# EAGLE library part DMC1627 (library userlib)
LCD DISPLAY Optrex, 16 characters x 2 Lines
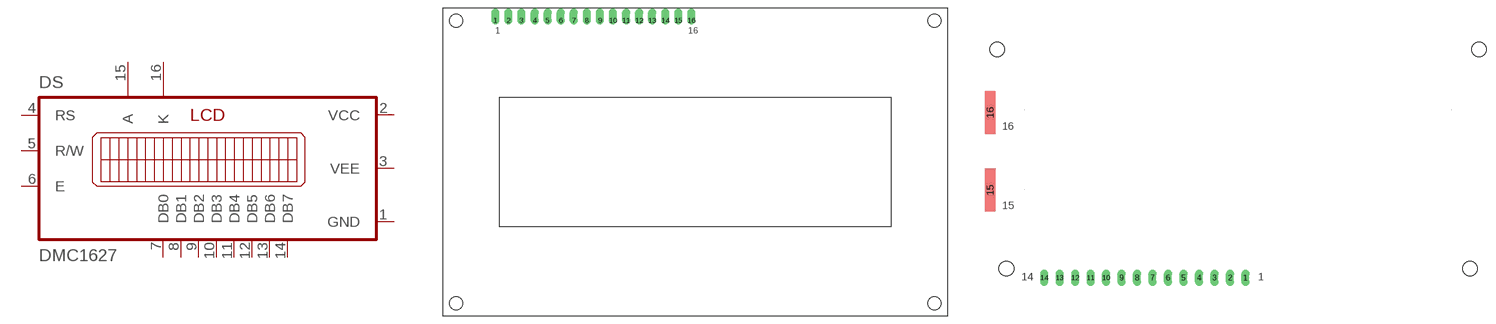
[diagram p0: symbol with the pads of 204A; footprints 204A, DMC1627]

Designator prefix DS

## DMC16272  [204A]
1  GND  pwr
2  VCC  pwr
3  VEE  pwr
4  RS  in
5  R/W  in
6  E  in
7  DB0  pas
8  DB1  pas
9  DB2  pas
10  DB3  pas
11  DB4  pas
12  DB5  pas
13  DB6  pas
14  DB7  pas
15  A  pwr
16  K  pwr

## DMC16271  [DMC1627]
Pads as for 204A

## Footprint 204A (pad centres in mm)
drill 1.016 offset: 1 0,0; 2 2.54,0; 3 5.08,0; 4 7.62,0; 5 10.16,0; 6 12.7,0; 7 15.24,0; 8 17.78,0; 9 20.32,0; 10 22.86,0; 11 25.4,0; 12 27.94,0; 13 30.48,0; 14 33.02,0; 15 35.56,0; 16 38.1,0

## Footprint DMC1627 (pad centres in mm)
LCD DISPLAY Optrex, 16 characters x 2 Lines
drill 0.813 long: 1 1.22,-19.5; 2 -1.32,-19.5; 3 -3.86,-19.5; 4 -6.4,-19.5; 5 -8.94,-19.5; 6 -11.48,-19.5; 7 -14.02,-19.5; 8 -16.56,-19.5; 9 -19.1,-19.5; 10 -21.64,-19.5; 11 -24.18,-19.5; 12 -26.72,-19.5; 13 -29.26,-19.5; 14 -31.8,-19.5
smd 1.778 x 7: 15 -40.64,-5.08; 16 -40.64,7.62
hole 2.4 at -39.5,18
hole 2.4 at -38,-18
hole 2.4 at 38,-18
hole 2.4 at 39.5,18